# Altium integrated library ABS07-120-32.768KHZ-T.IntLib: 1 symbol
Pins are listed as number, name and electrical type; pins without a type are passive.

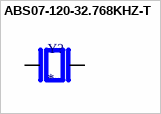
[diagram p0: symbol ABS07-120-32.768KHZ-T]

## ABS07-120-32.768KHZ-T
designator Y?
32.768 kHz Â±20ppm Crystal 6pF 55 kOhms 2-SMD, No Lead; MF: Abracon; MP: ABS07-120-32.768KHZ-T; Package: SMD-2 Abracon LLC; Purchase-URL: https://pricing.snapeda.com/search/part/ABS07-120-32.768KHZ-T/?ref=eda; Value: *; Digi-Key_Part_Number: 535-11937-2-ND; SnapEDA_Link: https://www.snapeda.com/parts/ABS07-120-32.768KHZ-T/Abracon+LLC/view-part/?ref=snap; Check_prices: https://www.snapeda.com/parts/ABS07-120-32.768KHZ-T/Abracon+LLC/view-part/?ref=eda
footprint XTAL_ABS07-120-32.768KHZ-T
pins: 1, 2